# Altium schematic symbol library U_BQ27427YZFR.SchLib: 1 symbol
Pins are listed as number, name and electrical type; pins without a type are passive.

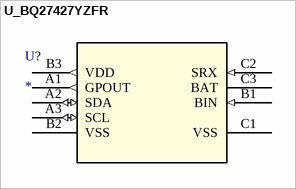
[diagram p0: symbol U_BQ27427YZFR]

## U_BQ27427YZFR
designator U?
No Description Available; Mfr_Name: Texas Instruments; RefDes: RefDes; Type: Type
footprint DSBGA9-YZF_TEX
pins: A1 GPOUT (out), A2 SDA (io), A3 SCL (io), B1 BIN (in), B2 VSS (power), B3 VDD (out), C1 VSS (power), C2 SRX (in), C3 BAT (power)